# Altium footprint library CON-BOR-X2-5MM.PcbLib: 1 footprints
Each footprint in its own frame and in the unit in brackets; x right, y up, seen from the top. Pads: shape width x height; smd on the part's side, far side on the other; paste and mask are expansions set on the pad; w line width, h text height; cw(c..) or ccw(c..) is an arc to the next point about the centre after c.
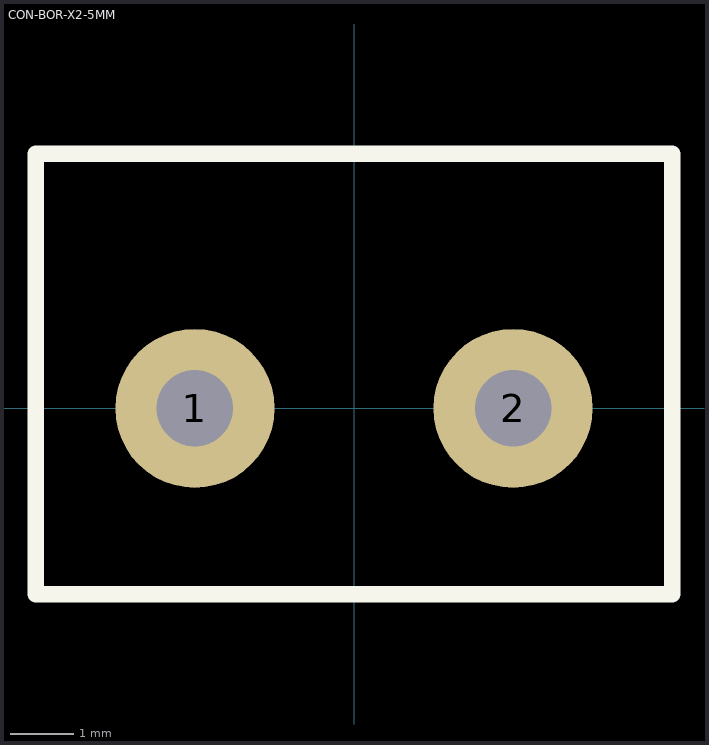
[diagram p0: the footprint, top view; thin cyan lines are the x and y axes]

## CON-BOR-X2-5MM [mm] "Bornera X2 5MM"
pads (2):
  round 2.5 hole 1.2: 1(-2.5,0) 2(2.5,0)
Top Overlay:
  lines w0.254: -5,-2.921 5,-2.921 5,4 -5,4 -5,-2.921
3D body "CON-BOR-X2-5MM.stp": height 10, standoff -4.1, extent -5.647,-3.038 4.953,4.562